# Altium schematic symbol library IC.SchLib: 15 symbols
Pins are listed as number, name and electrical type; pins without a type are passive.

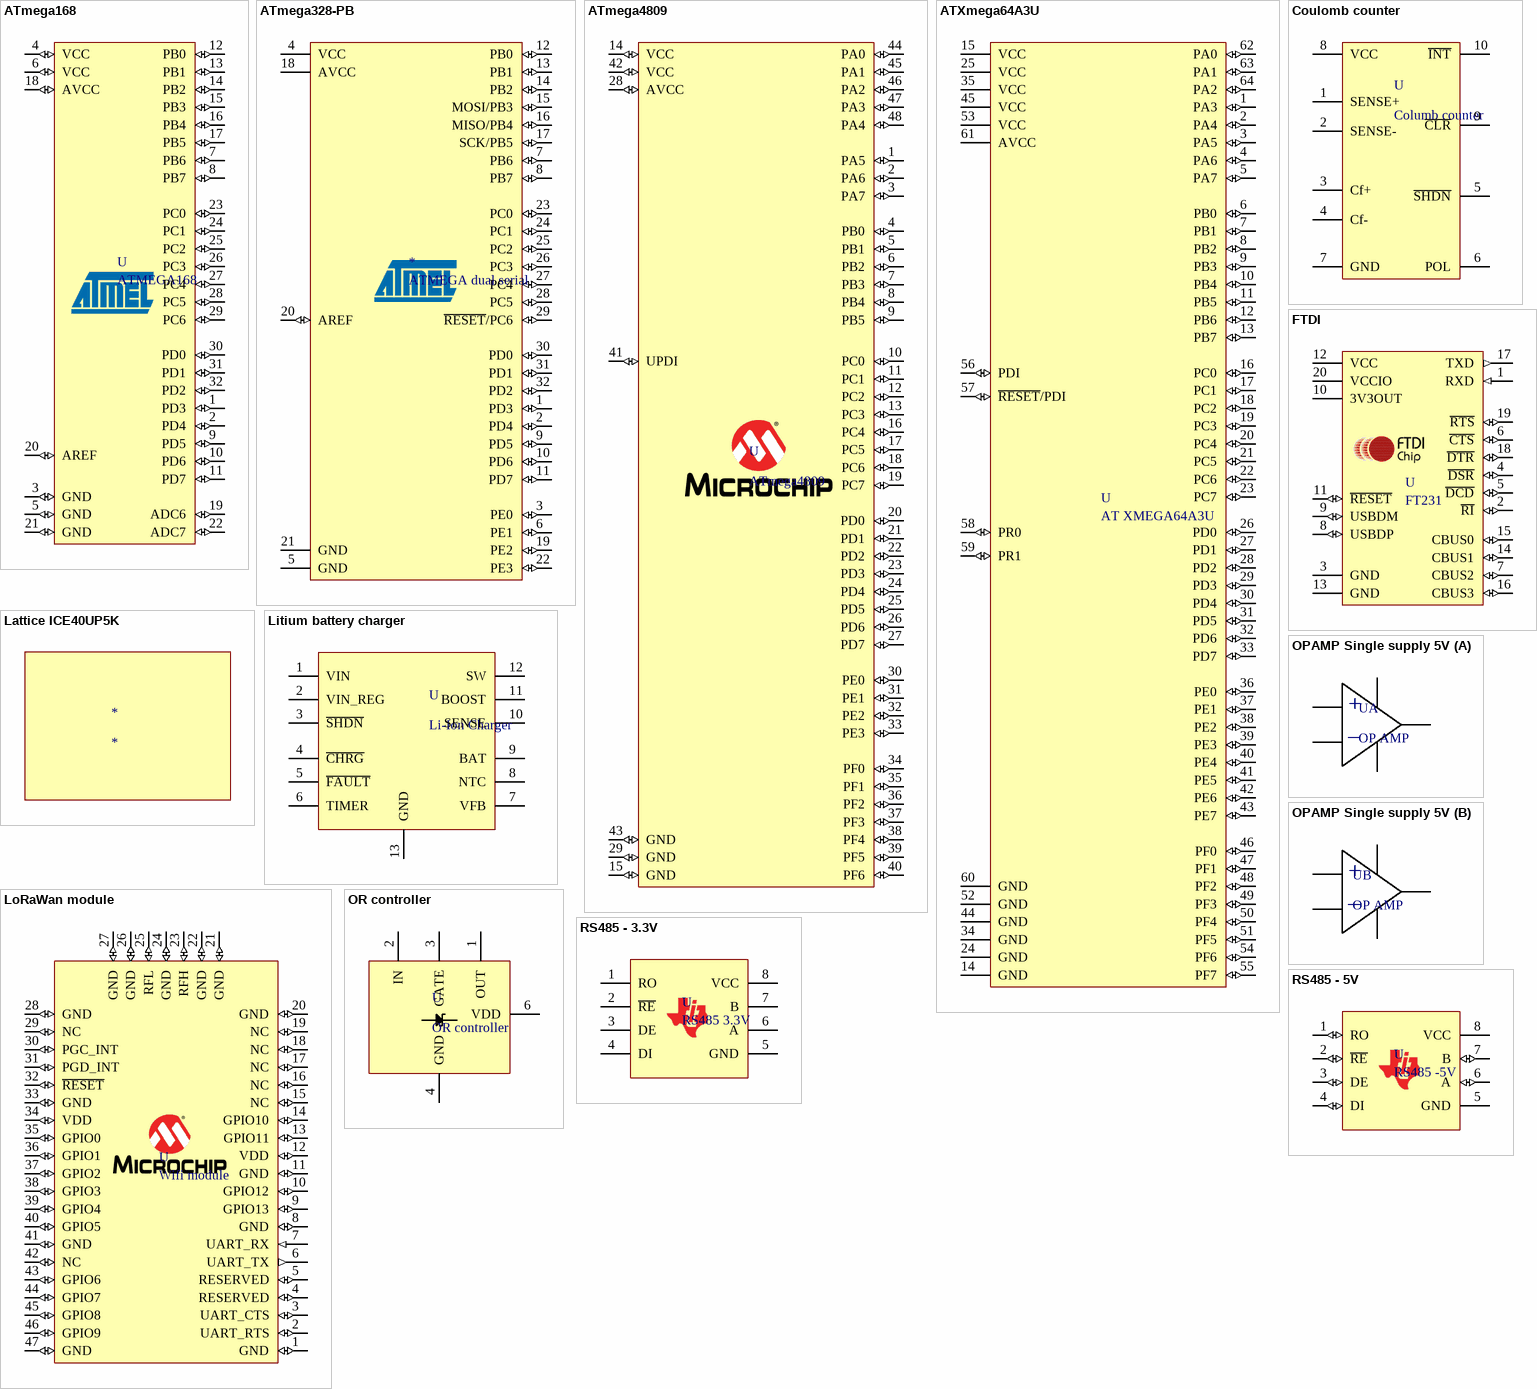
[diagram p0: symbols ATmega168 to RS485 - 5V]

## ATmega168
designator U, comment ATMEGA168
footprint ATMEGA168 (TQFP 32)
pins: 1 PD3 (io), 2 PD4 (io), 3 GND (io), 4 VCC (io), 5 GND (io), 6 VCC (io), 7 PB6 (io), 8 PB7 (io), 9 PD5 (io), 10 PD6 (io), 11 PD7 (io), 12 PB0 (io), 13 PB1 (io), 14 PB2 (io), 15 PB3 (io), 16 PB4 (io), 17 PB5 (io), 18 AVCC (io), 19 ADC6 (io), 20 AREF (io), 21 GND (io), 22 ADC7 (io), 23 PC0 (io), 24 PC1 (io), 25 PC2 (io), 26 PC3 (io), 27 PC4 (io), 28 PC5 (io), 29 PC6 (io), 30 PD0 (io), 31 PD1 (io), 32 PD2 (io)

## ATmega328-PB
designator *, comment ATMEGA dual serial
footprint ATMEGA328-PB
pins: 1 PD3 (io), 2 PD4 (io), 3 PE0 (io), 4 VCC (power), 5 GND (power), 6 PE1 (io), 7 PB6 (io), 8 PB7 (io), 9 PD5 (io), 10 PD6 (io), 11 PD7 (io), 12 PB0 (io), 13 PB1 (io), 14 PB2 (io), 15 MOSI/PB3 (io), 16 MISO/PB4 (io), 17 SCK/PB5 (io), 18 AVCC (power), 19 PE2 (io), 20 AREF (io), 21 GND (power), 22 PE3 (io), 23 PC0 (io), 24 PC1 (io), 25 PC2 (io), 26 PC3 (io), 27 PC4 (io), 28 PC5 (io), 29 ~{RESET}/PC6 (io), 30 PD0 (io), 31 PD1 (io), 32 PD2 (io)

## ATmega4809
designator U
footprint ATmega4809 (QFN, 48-Leads, Body 6.00x6.00mm, Pitch 0.40mm, Thermal Pad 4.60x4.60mm, IPC Medium Density)
pins: 1 PA5 (io), 2 PA6 (io), 3 PA7 (io), 4 PB0 (io), 5 PB1 (io), 6 PB2 (io), 7 PB3 (io), 8 PB4 (io), 9 PB5 (io), 10 PC0 (io), 11 PC1 (io), 12 PC2 (io), 13 PC3 (io), 14 VCC (io), 15 GND (io), 16 PC4 (io), 17 PC5 (io), 18 PC6 (io), 19 PC7 (io), 20 PD0 (io), 21 PD1 (io), 22 PD2 (io), 23 PD3 (io), 24 PD4 (io), 25 PD5 (io), 26 PD6 (io), 27 PD7 (io), 28 AVCC (io), 29 GND (io), 30 PE0 (io), 31 PE1 (io), 32 PE2 (io), 33 PE3 (io), 34 PF0 (io), 35 PF1 (io), 36 PF2 (io), 37 PF3 (io), 38 PF4 (io), 39 PF5 (io), 40 PF6 (io), 41 UPDI (io), 42 VCC (io), 43 GND (io), 44 PA0 (io), 45 PA1 (io), 46 PA2 (io), 47 PA3 (io), 48 PA4 (io)

## ATXmega64A3U
designator U, comment AT XMEGA64A3U
TQFP
footprint ATXMEGA64A3U / TQFP (TQFP, 64-Leads, Body 14.00x14.00mm, Pitch 0.80mm, IPC Low Density)
pins: 1 PA3 (io), 2 PA4 (io), 3 PA5 (io), 4 PA6 (io), 5 PA7 (io), 6 PB0 (io), 7 PB1 (io), 8 PB2 (io), 9 PB3 (io), 10 PB4 (io), 11 PB5 (io), 12 PB6 (io), 13 PB7 (io), 14 GND (power), 15 VCC (power), 16 PC0 (io), 17 PC1 (io), 18 PC2 (io), 19 PC3 (io), 20 PC4 (io), 21 PC5 (io), 22 PC6 (io), 23 PC7 (io), 24 GND (power), 25 VCC (power), 26 PD0 (io), 27 PD1 (io), 28 PD2 (io), 29 PD3 (io), 30 PD4 (io), 31 PD5 (io), 32 PD6 (io), 33 PD7 (io), 34 GND (power), 35 VCC (power), 36 PE0 (io), 37 PE1 (io), 38 PE2 (io), 39 PE3 (io), 40 PE4 (io), 41 PE5 (io), 42 PE6 (io), 43 PE7 (io), 44 GND (power), 45 VCC (power), 46 PF0 (io), 47 PF1 (io), 48 PF2 (io), 49 PF3 (io), 50 PF4 (io), 51 PF5 (io), 52 GND (power), 53 VCC (power), 54 PF6 (io), 55 PF7 (io), 56 PDI (io), 57 ~{RESET}/PDI (io), 58 PR0 (io), 59 PR1 (io), 60 GND (power), 61 AVCC (power), 62 PA0 (io), 63 PA1 (io), 64 PA2 (io)

## Coulomb counter
designator U, comment Columb counter
footprint LTC4150 (TSSOP, 10-Leads, Body 3,00x3,00mm, Pitch 0,50mm, IPC Medium Density)
pins: 1 SENSE+, 2 SENSE-, 3 Cf+, 4 Cf-, 5 ~{SHDN}, 6 POL, 7 GND, 8 VCC, 9 ~{CLR}, 10 ~{INT}

## FTDI
designator U, comment FT231
USB to UART
footprint FTDI (FT231XQ-R)
pins: 1 RXD (in), 2 ~{RI} (io), 3 GND, 4 ~{DSR} (io), 5 ~{DCD} (io), 6 ~{CTS} (io), 7 CBUS2 (io), 8 USBDP (io), 9 USBDM (io), 10 3V3OUT, 11 ~{RESET} (io), 12 VCC, 13 GND, 14 CBUS1 (io), 15 CBUS0 (io), 16 CBUS3 (io), 17 TXD (out), 18 ~{DTR} (io), 19 ~{RTS} (io), 20 VCCIO

## Lattice ICE40UP5K
designator *
footprint Lattice 48-pin QFN (option 2)

## Litium battery charger
designator U, comment Li-Ion Charger
footprint DFN 12-PINS
pins: 1 VIN, 2 VIN_REG, 3 ~{SHDN}, 4 ~{CHRG}, 5 ~{FAULT}, 6 TIMER, 7 VFB, 8 NTC, 9 BAT, 10 SENSE, 11 BOOST, 12 SW, 13 GND

## LoRaWan module
designator U, comment Wifi module
RN2483A
footprint RN2483A
pins: 1 GND (io), 2 UART_RTS (io), 3 UART_CTS (io), 4 RESERVED (io), 5 RESERVED (io), 6 UART_TX (out), 7 UART_RX (in), 8 GND (io), 9 GPIO13 (io), 10 GPIO12 (io), 11 GND (io), 12 VDD (io), 13 GPIO11 (io), 14 GPIO10 (io), 15 NC (io), 16 NC (io), 17 NC (io), 18 NC (io), 19 NC (io), 20 GND (io), 21 GND (io), 22 GND (io), 23 RFH (io), 24 GND (io), 25 RFL (io), 26 GND (io), 27 GND (io), 28 GND (io), 29 NC (io), 30 PGC_INT (io), 31 PGD_INT (io), 32 ~{RESET} (io), 33 GND (io), 34 VDD (io), 35 GPIO0 (io), 36 GPIO1 (io), 37 GPIO2 (io), 38 GPIO3 (io), 39 GPIO4 (io), 40 GPIO5 (io), 41 GND (io), 42 NC (io), 43 GPIO6 (io), 44 GPIO7 (io), 45 GPIO8 (io), 46 GPIO9 (io), 47 GND (io)

## OPAMP Single supply 5V
designator U, comment OP AMP
footprint OPAMP Single supply 5V (MCP6002T)
part A pins: 1, 2, 3, 4, 8
part B pins: 4, 5, 6, 7, 8
part A text: +; _
part B text: +; _

## OR controller
designator U
LTC4357
footprint DFN 6-pins
pins: 1 OUT, 1, 2 IN, 2, 3 GATE, 4 GND, 6 VDD

## RS485 - 3.3V
designator U, comment RS485 3.3V
footprint RS485 - 3.3V (SOIC)
pins: 1 RO, 2 ~{RE}, 3 DE, 4 DI, 5 GND, 6 A, 7 B, 8 VCC

## RS485 - 5V
designator U, comment RS485 -5V
pins: 1 RO (io), 2 ~{RE} (io), 3 DE (io), 4 DI (io), 5 GND (power), 6 A (io), 7 B (io), 8 VCC (power)

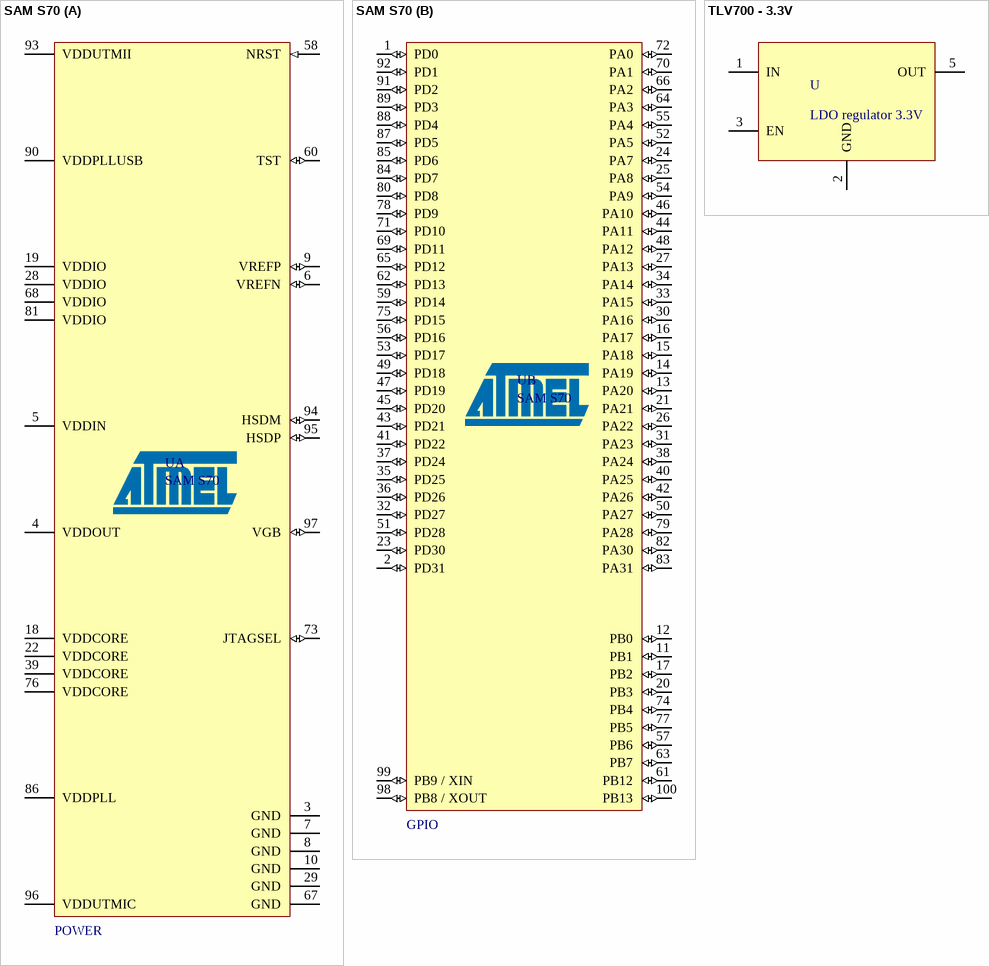
[diagram p1: symbols SAM S70 to TLV700 - 3.3V]

## SAM S70
designator U
footprint SAM S70 (LQFP 100 pin package)
part A pins: 3 GND (power), 4 VDDOUT (power), 5 VDDIN (power), 6 VREFN (io), 7 GND (power), 8 GND (power), 9 VREFP (io), 10 GND (power), 18 VDDCORE (power), 19 VDDIO (power), 22 VDDCORE (power), 28 VDDIO (power), 29 GND (power), 39 VDDCORE (power), 58 NRST (in), 60 TST (io), 67 GND (power), 68 VDDIO (power), 73 JTAGSEL (io), 76 VDDCORE (power), 81 VDDIO (power), 86 VDDPLL (power), 90 VDDPLLUSB (power), 93 VDDUTMII (power), 94 HSDM (io), 95 HSDP (io), 96 VDDUTMIC (power), 97 VGB (io)
part B pins: 1 PD0 (io), 2 PD31 (io), 11 PB1 (io), 12 PB0 (io), 13 PA20 (io), 14 PA19 (io), 15 PA18 (io), 16 PA17 (io), 17 PB2 (io), 20 PB3 (io), 21 PA21 (io), 23 PD30 (io), 24 PA7 (io), 25 PA8 (io), 26 PA22 (io), 27 PA13 (io), 30 PA16 (io), 31 PA23 (io), 32 PD27 (io), 33 PA15 (io), 34 PA14 (io), 35 PD25 (io), 36 PD26 (io), 37 PD24 (io), 38 PA24 (io), 40 PA25 (io), 41 PD22 (io), 42 PA26 (io), 43 PD21 (io), 44 PA11 (io), 45 PD20 (io), 46 PA10 (io), 47 PD19 (io), 48 PA12 (io), 49 PD18 (io), 50 PA27 (io), 51 PD28 (io), 52 PA5 (io), 53 PD17 (io), 54 PA9 (io), 55 PA4 (io), 56 PD16 (io), 57 PB6 (io), 59 PD14 (io), 61 PB12 (io), 62 PD13 (io), 63 PB7 (io), 64 PA3 (io), 65 PD12 (io), 66 PA2 (io), 69 PD11 (io), 70 PA1 (io), 71 PD10 (io), 72 PA0 (io), 74 PB4 (io), 75 PD15 (io), 77 PB5 (io), 78 PD9 (io), 79 PA28 (io), 80 PD8 (io), 82 PA30 (io), 83 PA31 (io), 84 PD7 (io), 85 PD6 (io), 87 PD5 (io), 88 PD4 (io), 89 PD3 (io), 91 PD2 (io), 92 PD1 (io), 98 PB8 / XOUT (io), 99 PB9 / XIN (io), 100 PB13 (io)
part A text: POWER
part B text: GPIO

## TLV700 - 3.3V
designator U, comment LDO regulator 3.3V
footprint LDO 5-pin SOT (TLV700)
pins: 1 IN, 2 GND, 3 EN, 5 OUT